# Altium schematic symbol library Steering_Wheel.SchLib: 9 symbols
Pins are listed as number, name and electrical type; pins without a type are passive.

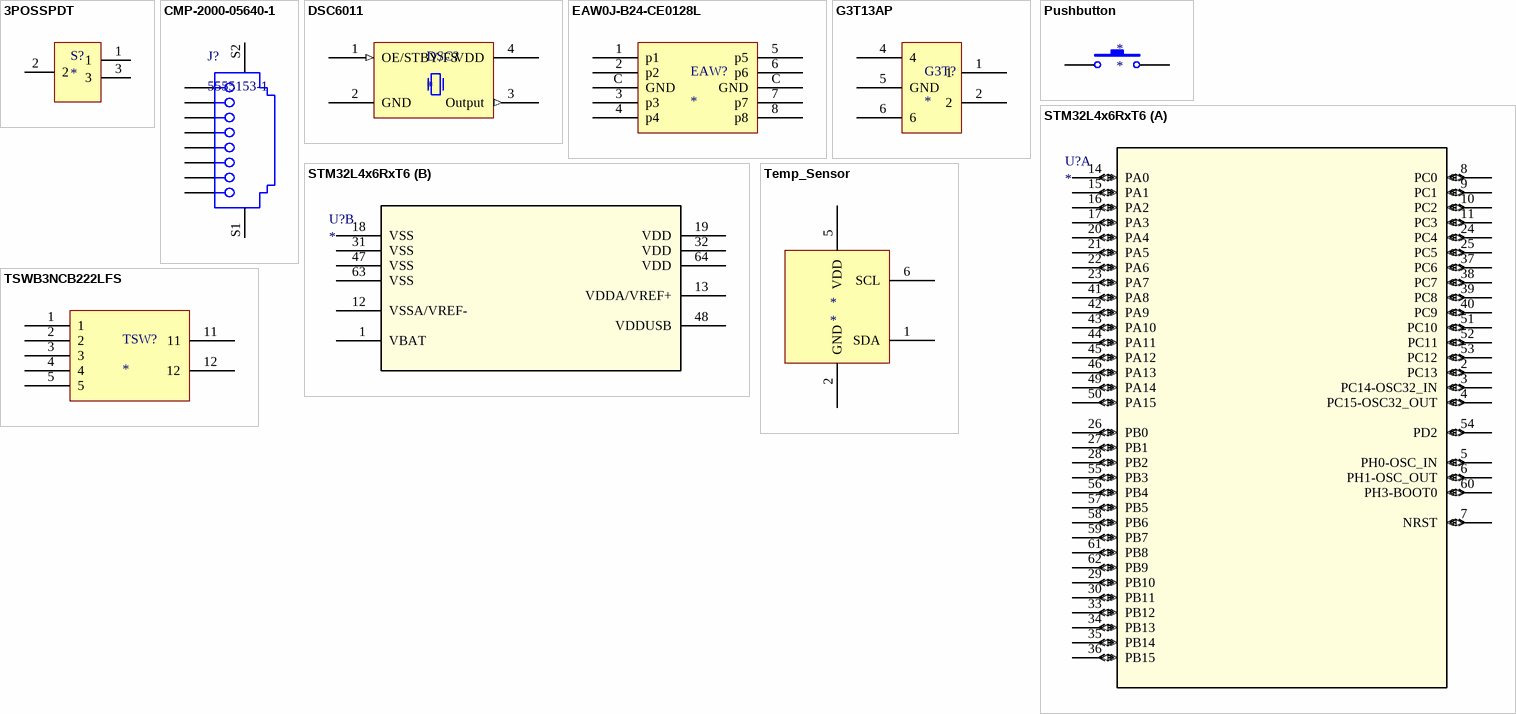
[diagram p0: symbols 3POSSPDT to TSWB3NCB222LFS]

## 3POSSPDT
designator S?
footprint 3POSSPDT (100SP3T2B4M2QE-ND)
pins: 1, 2, 3

## CMP-2000-05640-1
designator J?, comment 5555153-1
RJ45 Connector, Pitch 1.27 mm, 8 Position, Height 13.08 mm, Tail Length 3.81 mm, -40 to 85 degC, RoHS, Tray; Manufacturer: TE Connectivity; Number of Ports: 1; Shielding: Shielded; 3D Model: 5555153-1.pdf; Catalog Drawings: JackSideEntryRightAngle / JackSideEntryRightAngleTop; Ratings: Cat3; Connector Type: Jack; LED Color: DoesNotContainLED; Other Names: A31438; Tab Direction: Down; Number of Positions/Contacts: 8p8c(RJ45,Ethernet); Dynamic Catalog: ModularJacks; Contact Finish: Gold; Operating Temperature: -40°C~85°C; Contact Finish Thickness: 50µin(1.27µm); Datasheet URL: http://www.te.com/commerce/DocumentDelivery/DDEController?Action=srchrtrv&DocNm=5555153&DocType=Customer+Drawing&DocLang=English&DocFormat=pdf&PartCntxt=5555153-1; Mounting Type: ThroughHole; Package Reference: 5555153-1; RoHS Information: 5555153-1StatementofCompliance; Package Description: RJ45 Connector, Pitch 1.27 mm, 8 Position, Height 13.08 mm, Tail Length 3.81 mm; Family: ModularConnectors-Jacks; Orientation: 90°Angle(Right); Packaging: Tray; Number of Rows: 1; Mounting Technology: ThroughHole; Contact Material: PhosphorBronze; Manufacturer URL: http://www.te.com/; Datasheet Version: Rev. D2, 05/2016; Housing Material: PolybutyleneTerephthalate(PBT),Polyester; Features: BoardLock,PanelStops; Standard Package: 136; Termination: Solder; Category: Connectors,Interconnects
footprint RJ45 - CHN + DIGIKEY; pin to pad S1>11 S2>12
pins: 1 TD+, 2 TCT, 3 TD-, 4 NC, 5 RD+, 6 RCT, 7 RD-, 8 GND, S1 11, S2 12

## DSC6011
designator DSC?
footprint DSC6011JE1A-020.0000TCT-ND (4-Lead Very Thin Land Grid Array (AUA) - 2.5x2.0 mm Body [VLGA])
pins: 1 OE/STBY/FS (in), 2 GND (power), 3 Output (out) "Oscillator clock output", 4 VDD (power)

## EAW0J-B24-CE0128L
designator EAW?
Rotary Encoder - 8 pins
footprint EAW0J-B24-CE0128L (ROTARY ENCODER MECHANICAL 128PPR)
pins: 1 p1, 2 p2, 3 p3, 4 p4, 5 p5, 6 p6, 7 p7, 8 p8, C GND, C GND

## G3T13AP
designator G3T?
3-position toggle switch
footprint G3T13AP (SWITCH TOGGLE SPDT 0.4VA 28V)
pins: 1, 2, 4, 5 GND, 6

## Pushbutton
designator *
K12SCS1.55NOLFTX
footprint Pushbutton (K12SCS1.55NOLFTX)
pins: 1, 2

## STM32L4x6RxT6
designator U?
Imported; Manufacturer_Part_Number: stm32l4x6rxt6; Vendor: STMicroelectronics; C: Copyright (C) 2016 Accelerated Designs. All rights reserved; Copyright: Copyright (C) 2016 Accelerated Designs. All rights reserved; RefDes: RefDes; Type: DEV; Value: Value
footprint LQFP64-10x10mm
part A pins: 2 PC13 (io), 3 PC14-OSC32_IN (io), 4 PC15-OSC32_OUT (io), 5 PH0-OSC_IN (io), 6 PH1-OSC_OUT (io), 7 NRST (io), 8 PC0 (io), 9 PC1 (io), 10 PC2 (io), 11 PC3 (io), 14 PA0 (io), 15 PA1 (io), 16 PA2 (io), 17 PA3 (io), 20 PA4 (io), 21 PA5 (io), 22 PA6 (io), 23 PA7 (io), 24 PC4 (io), 25 PC5 (io), 26 PB0 (io), 27 PB1 (io), 28 PB2 (io), 29 PB10 (io), 30 PB11 (io), 33 PB12 (io), 34 PB13 (io), 35 PB14 (io), 36 PB15 (io), 37 PC6 (io), 38 PC7 (io), 39 PC8 (io), 40 PC9 (io), 41 PA8 (io), 42 PA9 (io), 43 PA10 (io), 44 PA11 (io), 45 PA12 (io), 46 PA13 (io), 49 PA14 (io), 50 PA15 (io), 51 PC10 (io), 52 PC11 (io), 53 PC12 (io), 54 PD2 (io), 55 PB3 (io), 56 PB4 (io), 57 PB5 (io), 58 PB6 (io), 59 PB7 (io), 60 PH3-BOOT0 (io), 61 PB8 (io), 62 PB9 (io)
part B pins: 1 VBAT (power), 12 VSSA/VREF- (power), 13 VDDA/VREF+ (power), 18 VSS (power), 19 VDD (power), 31 VSS (power), 32 VDD (power), 47 VSS (power), 48 VDDUSB (power), 63 VSS (power), 64 VDD (power)

## Temp_Sensor
designator *
Si7000-A20 Temperature and Humidity Sensor
footprint Temp_Sensor (Si7000-A20 Temperature and Humidity Sensor)
pins: 1 SDA, 2 GND, 5 VDD, 6 SCL

## TSWB3NCB222LFS
designator TSW?
Navigational Switch
footprint TSWB3NCB222LFS (SWITCH NAVIGATION SCROLL)
pins: 1, 2, 3, 4, 5, 11, 12